# Altium footprint library PA_Receiver.PcbLib: 33 footprints (part 1 of 3)
Each footprint in its own frame and in the unit in brackets; x right, y up, seen from the top. Pads: shape width x height; smd on the part's side, far side on the other; paste and mask are expansions set on the pad; w line width, h text height; cw(c..) or ccw(c..) is an arc to the next point about the centre after c.
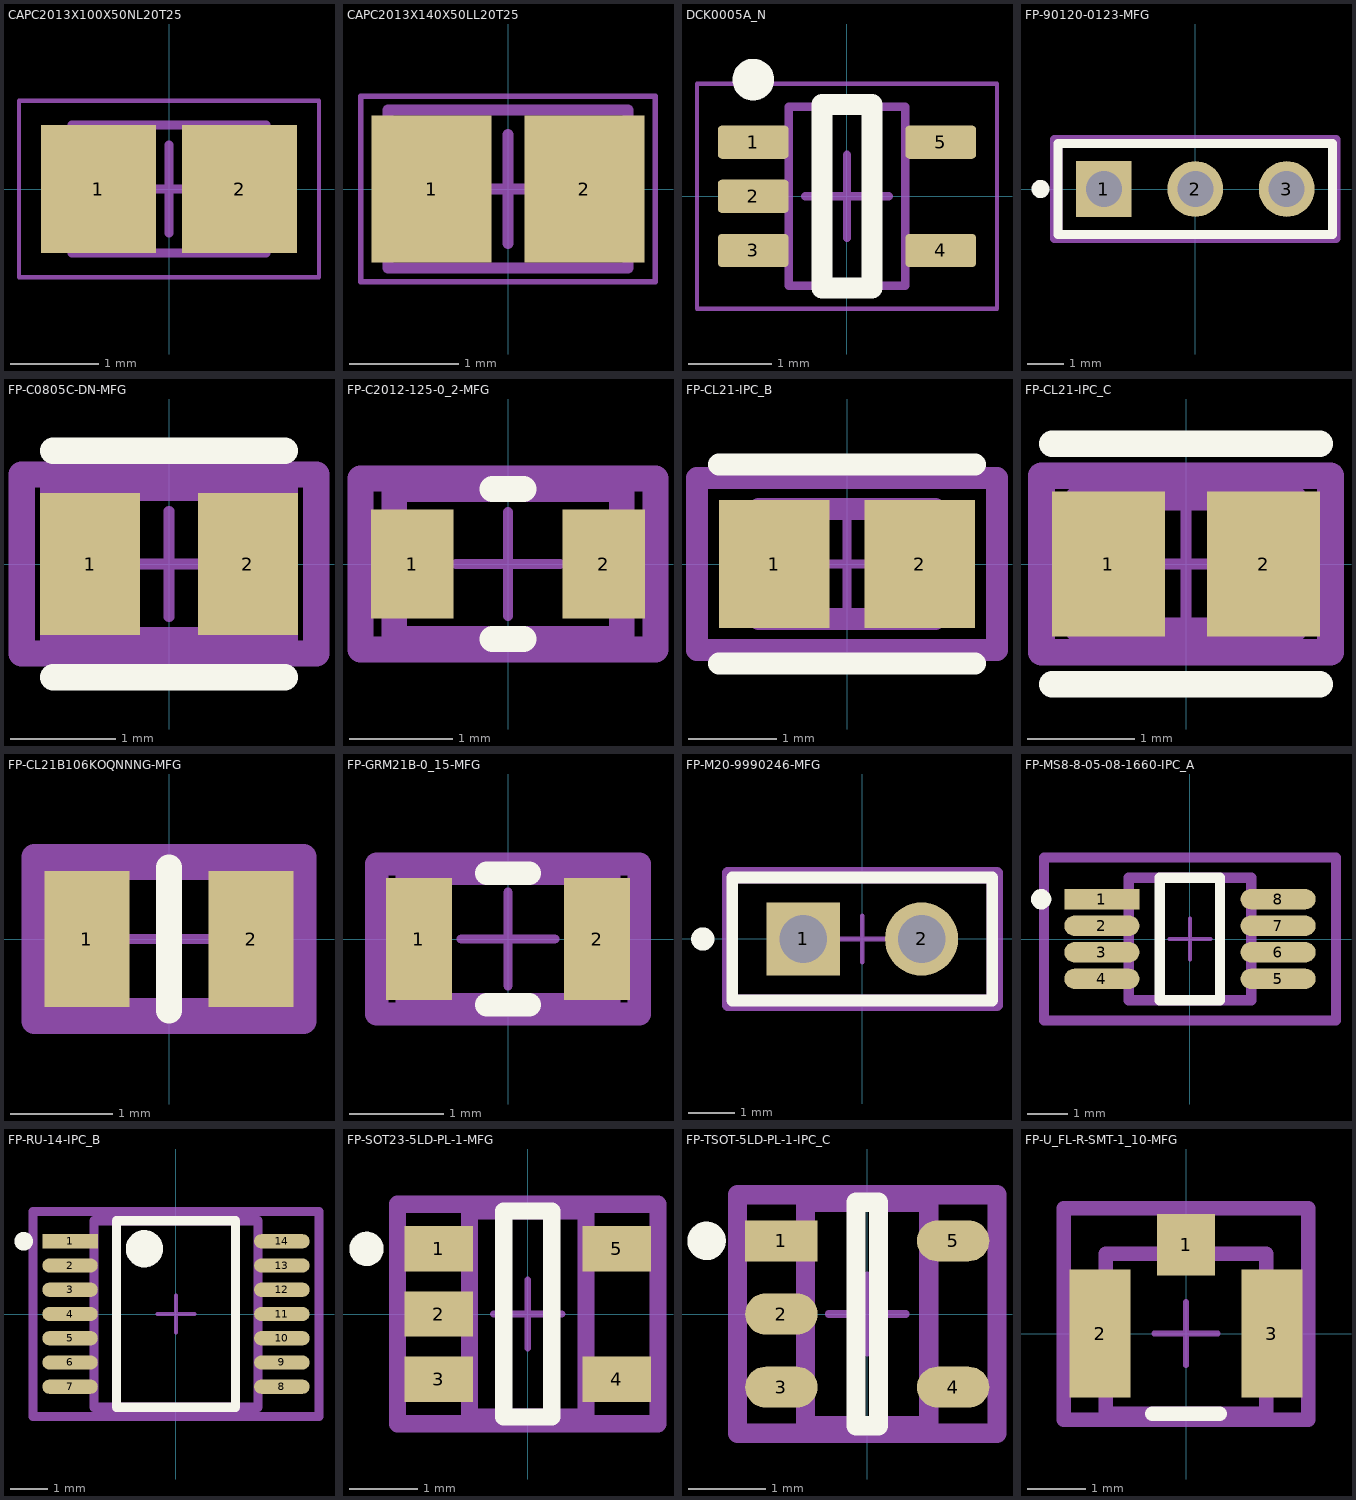
[diagram p0: the footprints below, top view; thin cyan lines are the x and y axes]

## CAPC2013X100X50NL20T25 [mm] "Chip Capacitor, 2-Leads, Body 2.00x1.25mm, IPC Medium Density"
height 1
pads (2):
  rect 1.3x1.45 smd: 1(-0.8,0) 2(0.8,0)
Top 3D Body:
  lines w0.1: -1.1,-0.725 1.1,-0.725 1.1,0.725 -1.1,0.725 -1.1,-0.725
Top Courtyard:
  lines w0.05: -1.7,-1 1.7,-1 1.7,1 -1.7,1 -1.7,-1
  lines w0.1: -0.5,0 0.5,0 ; 0,-0.5 0,0.5
3D body: height 1, standoff 0, extent 0.6,-0.725 1.1,0.725
3D body: height 1, standoff 0, extent -1.1,-0.725 -0.6,0.725
3D body: height 1, standoff 0, extent -0.6,-0.725 0.6,0.725

## CAPC2013X140X50LL20T25 [mm] "Chip Capacitor, 2-Leads, Body 2.00x1.25mm, IPC High Density"
height 1.4
pads (2):
  rect 1.1x1.35 smd: 1(-0.7,0) 2(0.7,0)
Top 3D Body:
  lines w0.1: -1.1,-0.725 1.1,-0.725 1.1,0.725 -1.1,0.725 -1.1,-0.725
Top Courtyard:
  lines w0.05: -1.35,-0.85 1.35,-0.85 1.35,0.85 -1.35,0.85 -1.35,-0.85
  lines w0.1: -0.5,0 0.5,0 ; 0,-0.5 0,0.5
3D body: height 1.4, standoff 0, extent 0.6,-0.725 1.1,0.725
3D body: height 1.4, standoff 0, extent -1.1,-0.725 -0.6,0.725
3D body: height 1.4, standoff 0, extent -0.6,-0.725 0.6,0.725

## DCK0005A_N [mm] "SOT23, 5-Leads, Body 2.15x1.4mm, Pitch 0.65mm, IPC Medium Density"
height 1.1
pads (5):
  rrect25% 0.85x0.4 smd: 1(-1.125,0.65) 2(-1.125,0) 3(-1.125,-0.65) 4(1.125,-0.65) 5(1.125,0.65)
Top Overlay:
  circle w0.25: c-1.125,1.4 r0.125
  lines w0.25: -0.3,-1.1 0.3,-1.1 0.3,1.1 -0.3,1.1 -0.3,-1.1
Mechanical 1:
  text ".Designator" at -0.635,-0.127 h0.3
Top 3D Body:
  lines w0.1: -0.7,-1.075 -0.7,1.075 0.7,1.075 0.7,-1.075 -0.7,-1.075
Top Courtyard:
  lines w0.05: -1.8,-1.35 -1.8,1.35 1.8,1.35 1.8,-1.35 -1.8,-1.35
  lines w0.1: -0.5,0 0.5,0 ; 0,-0.5 0,0.5
3D body "DCK0005AakaMAA05A.stp": height 0.94, standoff -0.01, extent -1.14,-1 1.14,1

## FP-90120-0123-MFG [mm]
pads (3):
  rect 1.55x1.55 hole 1 paste-2539.97 mask+0: 1(-2.54,0)
  round 1.55 hole 1 paste-2539.97 mask+0: 2(0,0) 3(2.54,0)
Top Overlay:
  circle w0.25: c-4.3,0 r0.125
  lines w0.25: -3.81,-1.27 3.81,-1.27 3.81,1.27 -3.81,1.27 -3.81,-1.27
Top Assembly:
  lines w0.25: -3.91,-1.37 3.91,-1.37 3.91,1.37 -3.91,1.37 -3.91,-1.37
  text ".Designator" at 0,-0.001 h1
Top 3D Body:
  lines w0.25: -3.81,-1.27 3.81,-1.27 3.81,1.27 -3.81,1.27 -3.81,-1.27
Top Courtyard:
  lines w0.25: -3.91,-1.37 3.91,-1.37 3.91,1.37 -3.91,1.37 -3.91,-1.37
Top Component Center:
  lines w0.1: -0.5,0 0.5,0 ; 0,-0.5 0,0.5
3D body "Conn_Molex_90120-0123_eec.STEP": height 0.25, standoff 0, extent -3.91,-1.37 3.91,1.37

## FP-C0805C-DN-MFG [mm]
pads (2):
  rect 0.95x1.35 smd paste+0 mask+0: 1(-0.75,0) 2(0.75,0)
Top Overlay:
  lines w0.25: -1.1,-1.075 1.1,-1.075 ; -1.1,1.075 1.1,1.075
Top Assembly:
  lines w0.25: -1.4,-0.85 -1.4,0.85 1.4,0.85 1.4,-0.85 -1.4,-0.85
  text ".Designator" at 0,0.188 h1
Top 3D Body:
  lines w0.25: -1.1,-0.725 -1.1,0.725 1.1,0.725 1.1,-0.725 -1.1,-0.725
Top Courtyard:
  lines w0.25: -1.4,-0.85 -1.4,0.85 1.4,0.85 1.4,-0.85 -1.4,-0.85
Top Component Center:
  lines w0.1: -0.5,0 0.5,0 ; 0,-0.5 0,0.5
3D body "Cap_KEMET_C0805C472J3HAC_eec.STEP": height 0.25, standoff 0, extent -1.4,-0.85 1.4,0.85

## FP-C2012-125-0_2-MFG [mm]
pads (2):
  rect 0.8x1.05 smd paste+0 mask+0: 1(-0.925,0) 2(0.925,0)
Top Overlay:
  lines w0.25: -0.15,-0.725 0.15,-0.725 ; -0.15,0.725 0.15,0.725
Top Assembly:
  lines w0.25: -1.425,-0.825 -1.425,0.825 1.425,0.825 1.425,-0.825 -1.425,-0.825
  text ".Designator" at 0,0.188 h1
Top 3D Body:
  lines w0.25: -1.1,-0.725 -1.1,0.725 1.1,0.725 1.1,-0.725 -1.1,-0.725
Top Courtyard:
  lines w0.25: -1.425,-0.825 -1.425,0.825 1.425,0.825 1.425,-0.825 -1.425,-0.825
Top Component Center:
  lines w0.1: -0.5,0 0.5,0 ; 0,-0.5 0,0.5
3D body "Cap_TDK_C2012X7R1E474K125AA_eec.STEP": height 0.25, standoff 0, extent -1.425,-0.825 1.425,0.825

## FP-CL21-IPC_B [mm]
pads (2):
  rect 1.255x1.456 smd paste+0 mask+0: 1(-0.826,0) 2(0.826,0)
Top Overlay:
  lines w0.25: -1.453,-1.128 1.453,-1.128 ; -1.453,1.128 1.453,1.128
Top Assembly:
  lines w0.25: -1.703,-0.978 -1.703,0.978 1.703,0.978 1.703,-0.978 -1.703,-0.978
  text ".Designator" at 0,0.188 h1
Top 3D Body:
  lines w0.25: -1,-0.625 -1,0.625 1,0.625 1,-0.625 -1,-0.625
Top Courtyard:
  lines w0.25: -1.703,-0.978 -1.703,0.978 1.703,0.978 1.703,-0.978 -1.703,-0.978
Top Component Center:
  lines w0.1: -0.5,0 0.5,0 ; 0,-0.5 0,0.5
3D body "Cap_Samsung_CL21B273KBANNNC_eec.STEP": height 0.25, standoff 0, extent -1.703,-0.978 1.703,0.978

## FP-CL21-IPC_C [mm]
pads (2):
  rect 1.055x1.356 smd paste+0 mask+0: 1(-0.726,0) 2(0.726,0)
Top Overlay:
  lines w0.25: -1.253,-1.125 1.253,-1.125 ; -1.253,1.125 1.253,1.125
Top Assembly:
  lines w0.25: -1.353,-0.825 1.353,-0.825 1.353,0.825 -1.353,0.825 -1.353,-0.825
  text ".Designator" at 0,0.188 h1
Top 3D Body:
  lines w0.25: -1,-0.625 1,-0.625 1,0.625 -1,0.625 -1,-0.625
Top Courtyard:
  lines w0.25: -1.353,-0.825 1.353,-0.825 1.353,0.825 -1.353,0.825 -1.353,-0.825
Top Component Center:
  lines w0.1: -0.5,0 0.5,0 ; 0,-0.5 0,0.5
3D body "Cap_Samsung_CL21B273KBANNNC_eec.STEP": height 0.25, standoff 0, extent -1.353,-0.825 1.353,0.825

## FP-CL21B106KOQNNNG-MFG [mm]
pads (2):
  rect 0.825x1.325 smd paste+0 mask+0: 1(-0.8,0) 2(0.8,0)
Top Overlay:
  lines w0.25: 0,-0.7 0,0.7
Top Assembly:
  lines w0.25: -1.312,-0.8 1.312,-0.8 1.312,0.8 -1.312,0.8 -1.312,-0.8
  text ".Designator" at 0,-0.001 h1
Top 3D Body:
  lines w0.25: -1.075,-0.7 1.075,-0.7 1.075,0.7 -1.075,0.7 -1.075,-0.7
Top Courtyard:
  lines w0.25: -1.312,-0.8 1.312,-0.8 1.312,0.8 -1.312,0.8 -1.312,-0.8
Top Component Center:
  lines w0.1: -0.5,0 0.5,0 ; 0,-0.5 0,0.5
3D body "Cap_Samsung_Electro-Mechanics_CL21B106KOQNNNG_eec.STEP": height 0.25, standoff 0, extent -1.312,-0.8 1.312,0.8

## FP-GRM21B-0_15-MFG [mm]
pads (2):
  rect 0.7x1.3 smd paste+0 mask+0: 1(-0.95,0) 2(0.95,0)
Top Overlay:
  lines w0.25: -0.225,-0.7 0.225,-0.7 ; -0.225,0.7 0.225,0.7
Top Assembly:
  lines w0.25: -1.4,-0.8 1.4,-0.8 1.4,0.8 -1.4,0.8 -1.4,-0.8
  text ".Designator" at 0,0.188 h1
Top 3D Body:
  lines w0.25: -1.075,-0.7 1.075,-0.7 1.075,0.7 -1.075,0.7 -1.075,-0.7
Top Courtyard:
  lines w0.25: -1.4,-0.8 1.4,-0.8 1.4,0.8 -1.4,0.8 -1.4,-0.8
Top Component Center:
  lines w0.1: -0.5,0 0.5,0 ; 0,-0.5 0,0.5
3D body "Cap_Murata_GRM21BC81C106KA73L_eec.STEP": height 0.25, standoff 0, extent -1.4,-0.8 1.4,0.8

## FP-M20-9990246-MFG [mm]
pads (2):
  rect 1.57x1.57 hole 1.02 paste-2539.97 mask+0: 1(-1.27,0)
  round 1.57 hole 1.02 paste-2539.97 mask+0: 2(1.27,0)
Top Overlay:
  circle w0.25: c-3.425,0 r0.125
  lines w0.25: -2.79,-1.32 2.79,-1.32 2.79,1.32 -2.79,1.32 -2.79,-1.32
Top Assembly:
  lines w0.25: -2.89,-1.42 2.89,-1.42 2.89,1.42 -2.89,1.42 -2.89,-1.42
  text ".Designator" at 0,0.188 h1
Top 3D Body:
  lines w0.25: -2.79,-1.32 2.79,-1.32 2.79,1.32 -2.79,1.32 -2.79,-1.32
Top Courtyard:
  lines w0.25: -2.89,-1.42 2.89,-1.42 2.89,1.42 -2.89,1.42 -2.89,-1.42
Top Component Center:
  lines w0.1: -0.5,0 0.5,0 ; 0,-0.5 0,0.5
3D body "Conn_Harwin_M20-9990246_eec.STEP": height 0.25, standoff 0, extent -2.89,-1.42 2.89,1.42

## FP-MS8-8-05-08-1660-IPC_A [mm]
pads (8):
  rect 1.84x0.495 smd paste+0 mask+0: 1(-2.16,0.975)
  rrect100% 1.84x0.495 smd paste+0 mask+0: 2(-2.16,0.325) 3(-2.16,-0.325) 4(-2.16,-0.975) 5(2.16,-0.975) 6(2.16,-0.325) 7(2.16,0.325) 8(2.16,0.975)
Top Overlay:
  circle w0.25: c-3.65,0.975 r0.125
  lines w0.25: -0.74,-1.5 -0.74,1.5 0.74,1.5 0.74,-1.5 -0.74,-1.5
Top Assembly:
  lines w0.25: -3.58,-2 -3.58,2 3.58,2 3.58,-2 -3.58,-2
  text ".Designator" at 0,0.188 h1
Top 3D Body:
  lines w0.25: -1.5,-1.5 -1.5,1.5 1.5,1.5 1.5,-1.5 -1.5,-1.5
Top Courtyard:
  lines w0.25: -3.58,-2 -3.58,2 3.58,2 3.58,-2 -3.58,-2
Top Component Center:
  lines w0.1: -0.5,0 0.5,0 ; 0,-0.5 0,0.5
3D body "IC_Analog_Devices_Inc_LT6100IMS8#TRPBF_eec.STEP": height 0.25, standoff 0, extent -3.58,-2 3.58,2

## FP-RU-14-IPC_B [mm]
pads (14):
  rect 1.488x0.381 smd paste+0 mask+0: 1(-2.841,1.95)
  rrect100% 1.488x0.381 smd paste+0 mask+0: 2(-2.841,1.3) 3(-2.841,0.65) 4(-2.841,0) 5(-2.841,-0.65) 6(-2.841,-1.3) 7(-2.841,-1.95) 8(2.841,-1.95) 9(2.841,-1.3) 10(2.841,-0.65) 11(2.841,0) 12(2.841,0.65) 13(2.841,1.3) 14(2.841,1.95)
Top Overlay:
  circle w0.5: c-0.847,1.75 r0.25
  circle w0.25: c-4.085,1.95 r0.125
  lines w0.25: -1.597,-2.5 1.597,-2.5 1.597,2.5 -1.597,2.5 -1.597,-2.5
Top Assembly:
  lines w0.25: -3.835,-2.75 3.835,-2.75 3.835,2.75 -3.835,2.75 -3.835,-2.75
  text ".Designator" at 0,0.188 h1
Top 3D Body:
  lines w0.25: -2.2,-2.5 2.2,-2.5 2.2,2.5 -2.2,2.5 -2.2,-2.5
Top Courtyard:
  lines w0.25: -3.835,-2.75 3.835,-2.75 3.835,2.75 -3.835,2.75 -3.835,-2.75
Top Component Center:
  lines w0.1: -0.5,0 0.5,0 ; 0,-0.5 0,0.5
3D body "IC_Analog_Devices_ADG636YRUZ_eec.STEP": height 0.25, standoff 0, extent -3.835,-2.75 3.835,2.75

## FP-SOT23-5LD-PL-1-MFG [mm]
pads (5):
  rect 1x0.66 smd paste+0 mask+0: 1(-1.3,0.95) 2(-1.3,0) 3(-1.3,-0.95) 4(1.3,-0.95) 5(1.3,0.95)
Top Overlay:
  circle w0.25: c-2.35,0.95 r0.125
  lines w0.25: -0.35,-1.5 -0.35,1.5 0.35,1.5 0.35,-1.5 -0.35,-1.5
Top Assembly:
  lines w0.25: -1.9,-1.6 -1.9,1.6 1.9,1.6 1.9,-1.6 -1.9,-1.6
  text ".Designator" at 0,0.188 h1
Top 3D Body:
  lines w0.25: -0.85,-1.5 -0.85,1.5 0.85,1.5 0.85,-1.5 -0.85,-1.5
Top Courtyard:
  lines w0.25: -1.9,-1.6 -1.9,1.6 1.9,1.6 1.9,-1.6 -1.9,-1.6
Top Component Center:
  lines w0.1: -0.5,0 0.5,0 ; 0,-0.5 0,0.5
3D body "IC_Microchip_MIC7300YM5-TR_eec.STEP": height 0.25, standoff 0, extent -1.9,-1.6 1.9,1.6

## FP-TSOT-5LD-PL-1-IPC_C [mm]
pads (5):
  rect 0.94x0.532 smd paste+0 mask+0: 1(-1.115,0.95)
  rrect100% 0.94x0.532 smd paste+0 mask+0: 2(-1.115,0) 3(-1.115,-0.95) 4(1.116,-0.95) 5(1.116,0.95)
Top Overlay:
  circle w0.25: c-2.085,0.95 r0.125
  lines w0.25: -0.146,-1.45 -0.146,1.45 0.146,1.45 0.146,-1.45 -0.146,-1.45
Top Assembly:
  lines w0.25: -1.685,-1.55 -1.685,1.55 1.685,1.55 1.685,-1.55 -1.685,-1.55
  text ".Designator" at 0,0.188 h1
Top 3D Body:
  lines w0.25: -0.8,-1.45 -0.8,1.45 0.8,1.45 0.8,-1.45 -0.8,-1.45
Top Courtyard:
  lines w0.25: -1.685,-1.55 -1.685,1.55 1.685,1.55 1.685,-1.55 -1.685,-1.55
Top Component Center:
  lines w0.1: -0.5,0 0.5,0 ; 0,-0.5 0,0.5

## FP-U_FL-R-SMT-1_10-MFG [mm]
pads (3):
  rect 1x1.05 smd paste-1000 mask+0: 1(0,1.525)
  rect 1.05x2.2 smd paste-1000 mask+0: 2(-1.475,0) 3(1.475,0)
Top Overlay:
  lines w0.25: -0.575,-1.375 0.575,-1.375
Top Paste:
  rectangle: -1.95,-1 -1.05,1
  rectangle: 1.05,-1 1.95,1
  rectangle: -0.4,1.1 0.4,1.95
Top Assembly:
  lines w0.25: -2.1,-1.475 2.1,-1.475 2.1,2.15 -2.1,2.15 -2.1,-1.475
  text ".Designator" at 0,0.525 h1
Top 3D Body:
  lines w0.25: -1.375,-1.375 1.375,-1.375 1.375,1.375 -1.375,1.375 -1.375,-1.375
Top Courtyard:
  lines w0.25: -2.1,-1.475 2.1,-1.475 2.1,2.15 -2.1,2.15 -2.1,-1.475
Top Component Center:
  lines w0.1: -0.544,0 0.544,0 ; 0,-0.544 0,0.544
3D body "Conn_HIROSE_U_FL-R-SMT-1_10_eec.STEP": height 0.25, standoff 0, extent -2.1,-1.475 2.1,2.15